# Altium schematic symbol library PMIC-V.SchLib: 2 symbols
Pins are listed as number, name and electrical type; pins without a type are passive.

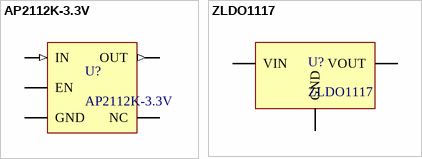
[diagram p0: symbols AP2112K-3.3V to ZLDO1117]

## AP2112K-3.3V
designator U?
3.3V LDO
pins: 1 IN (in), 2 GND (power), 3 EN, 4 NC, 5 OUT (out)

## ZLDO1117
designator U?
1A 3.3V LDO
footprint SOT230P700X165-4N (SOT223, 4-Leads, Body 6.50x7.00mm (avg), Pitch 2.30mm, IPC Medium Density)
pins: 1 GND (power), 2 VOUT (power), 3 VIN (power)